# EAGLE library part USB_ (library Connector)
4-Pin USB Connector
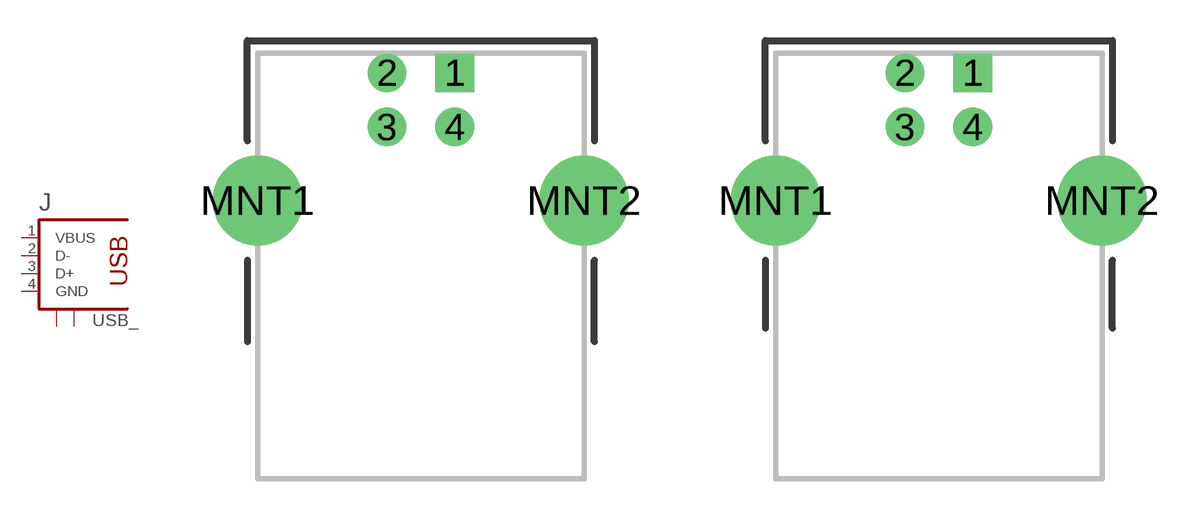
[diagram p3: symbol with the pads of USB_B_RA; footprints USB_B_RA, USB_B_RA_61729]

Designator prefix J

## USB_B_RA  [USB_B_RA]
1  VBUS  pwr
2  D-
3  D+
4  GND  pwr
MNT1  S1  pas
MNT2  S2  pas

## USB_B_RA_61729 (DIGIKEY: 609-3657-ND; MFPN: 61729-1011BLF; PARTNO: 29-100826-00)  [USB_B_RA_61729]
Pads as for USB_B_RA

## Footprint USB_B_RA (pad centres in mm)
FCI 61729 Series Datasheet <http://portal.fciconnect.com/Comergent//fci/drawing/61729.pdf>
drill 0.914 square: 1 1.25,4.71
drill 0.914: 2 -1.25,4.71; 3 -1.25,2.71; 4 1.25,2.71
drill 2.3 pad 3: MNT1 -6.02,0; MNT2 6.02,0

## Footprint USB_B_RA_61729 (pad centres in mm)
FCI 61729 Series Datasheet <http://portal.fciconnect.com/Comergent//fci/drawing/61729.pdf> DigiKey <http://www.digikey.com/product-detail/en/61729-1011BLF/609-3657-ND/1490763>
drill 0.914 square: 1 1.25,4.71
drill 0.914: 2 -1.25,4.71; 3 -1.25,2.71; 4 1.25,2.71
drill 2.3 pad 3: MNT1 -6.02,0; MNT2 6.02,0